# EAGLE library part AE-RTC-8564NB (library PartsForProto)
リアルタイムクロック（ＲＴＣ）モジュール 宮崎エプソン（セイコーエプソン・エプソントヨコム）の リアルタイムクロックＩＣ（ＲＴＣ－８５６４ＮＢ）を 使ったクロックモジュールです。 秋月電子通商 <http://akizukidenshi.com/catalog/g/gI-00233/>
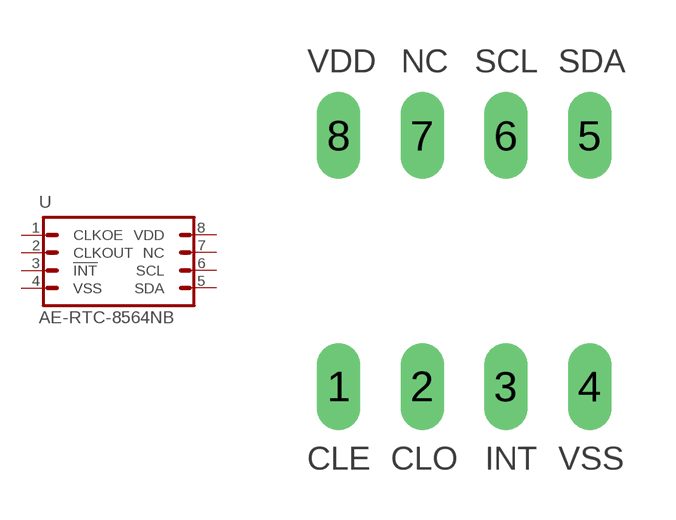
[diagram p11: symbol with the pads of DIL8_AE-RTC-8564NB; footprint DIL8_AE-RTC-8564NB]

Designator prefix U

## AE-RTC-8564NB  [DIL8_AE-RTC-8564NB]
1  CLKOE
2  CLKOUT
3  !INT!
4  VSS  pas
5  SDA
6  SCL
7  NC  nc
8  VDD  pas

## Footprint DIL8_AE-RTC-8564NB (pad centres in mm)
Dual In Line package type P
drill 0.813 long: 1 0,0; 2 2.54,0; 3 5.08,0; 4 7.62,0; 5 7.62,7.62; 6 5.08,7.62; 7 2.54,7.62; 8 0,7.62